# EAGLE library part ADAU1966WBSTZ (library keves-ng)
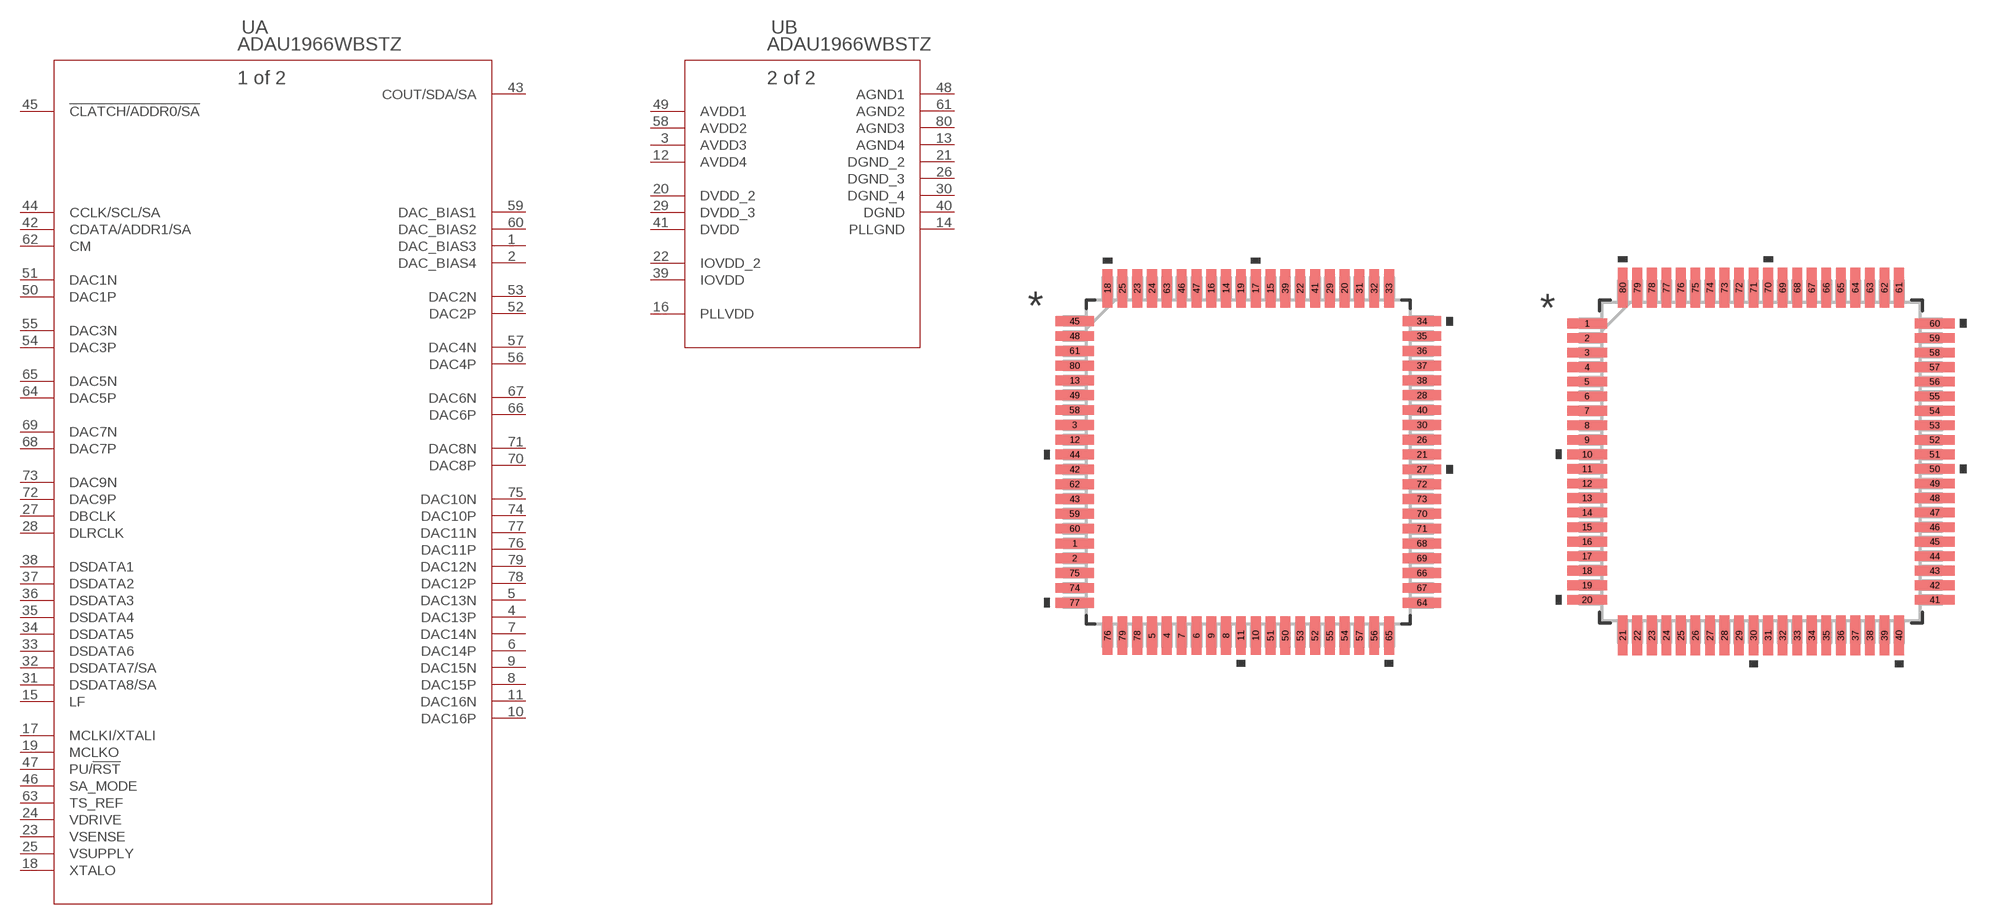
[diagram p5: symbol with the pads of ST_80_2; footprints ST_80_2, ST_80_2-M]

Designator prefix U; gates A=ADAU1966WBSTZ B=ADAU1966WBSTZ_A

## ADAU1966WBSTZ  [ST_80_2]
1  A:DAC_BIAS3  pas
2  A:DAC_BIAS4  pas
3  B:AVDD3  pas
4  A:DAC13P  pas
5  A:DAC13N  pas
6  A:DAC14P  pas
7  A:DAC14N  pas
8  A:DAC15P  pas
9  A:DAC15N  pas
10  A:DAC16P  pas
11  A:DAC16N  pas
12  B:AVDD4  pas
13  B:AGND4  pas
14  B:PLLGND  pas
15  A:LF  pas
16  B:PLLVDD  pas
17  A:MCLKI/XTALI  pas
18  A:XTALO  pas
19  A:MCLKO  pas
20  B:DVDD_2  pas
21  B:DGND_2  pas
22  B:IOVDD_2  pas
23  A:VSENSE  pas
24  A:VDRIVE  pas
25  A:VSUPPLY  pas
26  B:DGND_3  pas
27  A:DBCLK  pas
28  A:DLRCLK  pas
29  B:DVDD_3  pas
30  B:DGND_4  pas
31  A:DSDATA8/SA  pas
32  A:DSDATA7/SA  pas
33  A:DSDATA6  pas
34  A:DSDATA5  pas
35  A:DSDATA4  pas
36  A:DSDATA3  pas
37  A:DSDATA2  pas
38  A:DSDATA1  pas
39  B:IOVDD  pas
40  B:DGND  pas
41  B:DVDD  pas
42  A:CDATA/ADDR1/SA  pas
43  A:COUT/SDA/SA  pas
44  A:CCLK/SCL/SA  pas
45  A:!CLATCH/ADDR0/SA  pas
46  A:SA_MODE  pas
47  A:PU/!RST  pas
48  B:AGND1  pas
49  B:AVDD1  pas
50  A:DAC1P  pas
51  A:DAC1N  pas
52  A:DAC2P  pas
53  A:DAC2N  pas
54  A:DAC3P  pas
55  A:DAC3N  pas
56  A:DAC4P  pas
57  A:DAC4N  pas
58  B:AVDD2  pas
59  A:DAC_BIAS1  pas
60  A:DAC_BIAS2  pas
61  B:AGND2  pas
62  A:CM  pas
63  A:TS_REF  pas
64  A:DAC5P  pas
65  A:DAC5N  pas
66  A:DAC6P  pas
67  A:DAC6N  pas
68  A:DAC7P  pas
69  A:DAC7N  pas
70  A:DAC8P  pas
71  A:DAC8N  pas
72  A:DAC9P  pas
73  A:DAC9N  pas
74  A:DAC10P  pas
75  A:DAC10N  pas
76  A:DAC11P  pas
77  A:DAC11N  pas
78  A:DAC12P  pas
79  A:DAC12N  pas
80  B:AGND3  pas

## ADAU1966WBSTZST_80_2-M  [ST_80_2-M]
Pads as for ST_80_2

## ADAU1966WBSTZST_80_2-L  [ST_80_2-L]
Pads as for ST_80_2

## Footprint ST_80_2 (pad centres in mm)
smd 1.676 x 0.432: 1 -7.62,-3.575; 2 -7.62,-4.225; 3 -7.62,1.625; 12 -7.62,0.975; 13 -7.62,3.575; 21 7.62,0.325; 26 7.62,0.975; 27 7.62,-0.325; 28 7.62,2.925; 30 7.62,1.625; 34 7.62,6.175; 35 7.62,5.525; 36 7.62,4.875; 37 7.62,4.225; 38 7.62,3.575; 40 7.62,2.275; 42 -7.62,-0.325; 43 -7.62,-1.625; 44 -7.62,0.325; 45 -7.62,6.175; 48 -7.62,5.525; 49 -7.62,2.925; 58 -7.62,2.275; 59 -7.62,-2.275; 60 -7.62,-2.925; 61 -7.62,4.875; 62 -7.62,-0.975; 64 7.62,-6.175; 66 7.62,-4.875; 67 7.62,-5.525; 68 7.62,-3.575; 69 7.62,-4.225; 70 7.62,-2.275; 71 7.62,-2.925; 72 7.62,-0.975; 73 7.62,-1.625; 74 -7.62,-5.525; 75 -7.62,-4.875; 77 -7.62,-6.175; 80 -7.62,4.225
smd 0.432 x 1.676: 4 -3.575,-7.62; 5 -4.225,-7.62; 6 -2.275,-7.62; 7 -2.925,-7.62; 8 -0.975,-7.62; 9 -1.625,-7.62; 10 0.325,-7.62; 11 -0.325,-7.62; 14 -0.975,7.62; 15 0.975,7.62; 16 -1.625,7.62; 17 0.325,7.62; 18 -6.175,7.62; 19 -0.325,7.62; 20 4.225,7.62; 22 2.275,7.62; 23 -4.875,7.62; 24 -4.225,7.62; 25 -5.525,7.62; 29 3.575,7.62; 31 4.875,7.62; 32 5.525,7.62; 33 6.175,7.62; 39 1.625,7.62; 41 2.925,7.62; 46 -2.925,7.62; 47 -2.275,7.62; 50 1.625,-7.62; 51 0.975,-7.62; 52 2.925,-7.62; 53 2.275,-7.62; 54 4.225,-7.62; 55 3.575,-7.62; 56 5.525,-7.62; 57 4.875,-7.62; 63 -3.575,7.62; 65 6.175,-7.62; 76 -6.175,-7.62; 78 -4.875,-7.62; 79 -5.525,-7.62

## Footprint ST_80_2-M (pad centres in mm)
smd 1.778 x 0.432: 1 -7.772,6.175; 2 -7.772,5.525; 3 -7.772,4.875; 4 -7.772,4.225; 5 -7.772,3.575; 6 -7.772,2.925; 7 -7.772,2.275; 8 -7.772,1.625; 9 -7.772,0.975; 10 -7.772,0.325; 11 -7.772,-0.325; 12 -7.772,-0.975; 13 -7.772,-1.625; 14 -7.772,-2.275; 15 -7.772,-2.925; 16 -7.772,-3.575; 17 -7.772,-4.225; 18 -7.772,-4.875; 19 -7.772,-5.525; 20 -7.772,-6.175; 41 7.772,-6.175; 42 7.772,-5.525; 43 7.772,-4.875; 44 7.772,-4.225; 45 7.772,-3.575; 46 7.772,-2.925; 47 7.772,-2.275; 48 7.772,-1.625; 49 7.772,-0.975; 50 7.772,-0.325; 51 7.772,0.325; 52 7.772,0.975; 53 7.772,1.625; 54 7.772,2.275; 55 7.772,2.925; 56 7.772,3.575; 57 7.772,4.225; 58 7.772,4.875; 59 7.772,5.525; 60 7.772,6.175
smd 0.432 x 1.778: 21 -6.175,-7.772; 22 -5.525,-7.772; 23 -4.875,-7.772; 24 -4.225,-7.772; 25 -3.575,-7.772; 26 -2.925,-7.772; 27 -2.275,-7.772; 28 -1.625,-7.772; 29 -0.975,-7.772; 30 -0.325,-7.772; 31 0.325,-7.772; 32 0.975,-7.772; 33 1.625,-7.772; 34 2.275,-7.772; 35 2.925,-7.772; 36 3.575,-7.772; 37 4.225,-7.772; 38 4.875,-7.772; 39 5.525,-7.772; 40 6.175,-7.772; 61 6.175,7.772; 62 5.525,7.772; 63 4.875,7.772; 64 4.225,7.772; 65 3.575,7.772; 66 2.925,7.772; 67 2.275,7.772; 68 1.625,7.772; 69 0.975,7.772; 70 0.325,7.772; 71 -0.325,7.772; 72 -0.975,7.772; 73 -1.625,7.772; 74 -2.275,7.772; 75 -2.925,7.772; 76 -3.575,7.772; 77 -4.225,7.772; 78 -4.875,7.772; 79 -5.525,7.772; 80 -6.175,7.772

## Footprint ST_80_2-L (pad centres in mm)
smd 1.168 x 0.381: 1 -7.671,6.175; 2 -7.671,5.525; 3 -7.671,4.875; 4 -7.671,4.225; 5 -7.671,3.575; 6 -7.671,2.925; 7 -7.671,2.275; 8 -7.671,1.625; 9 -7.671,0.975; 10 -7.671,0.325; 11 -7.671,-0.325; 12 -7.671,-0.975; 13 -7.671,-1.625; 14 -7.671,-2.275; 15 -7.671,-2.925; 16 -7.671,-3.575; 17 -7.671,-4.225; 18 -7.671,-4.875; 19 -7.671,-5.525; 20 -7.671,-6.175; 41 7.671,-6.175; 42 7.671,-5.525; 43 7.671,-4.875; 44 7.671,-4.225; 45 7.671,-3.575; 46 7.671,-2.925; 47 7.671,-2.275; 48 7.671,-1.625; 49 7.671,-0.975; 50 7.671,-0.325; 51 7.671,0.325; 52 7.671,0.975; 53 7.671,1.625; 54 7.671,2.275; 55 7.671,2.925; 56 7.671,3.575; 57 7.671,4.225; 58 7.671,4.875; 59 7.671,5.525; 60 7.671,6.175
smd 0.381 x 1.168: 21 -6.175,-7.671; 22 -5.525,-7.671; 23 -4.875,-7.671; 24 -4.225,-7.671; 25 -3.575,-7.671; 26 -2.925,-7.671; 27 -2.275,-7.671; 28 -1.625,-7.671; 29 -0.975,-7.671; 30 -0.325,-7.671; 31 0.325,-7.671; 32 0.975,-7.671; 33 1.625,-7.671; 34 2.275,-7.671; 35 2.925,-7.671; 36 3.575,-7.671; 37 4.225,-7.671; 38 4.875,-7.671; 39 5.525,-7.671; 40 6.175,-7.671; 61 6.175,7.671; 62 5.525,7.671; 63 4.875,7.671; 64 4.225,7.671; 65 3.575,7.671; 66 2.925,7.671; 67 2.275,7.671; 68 1.625,7.671; 69 0.975,7.671; 70 0.325,7.671; 71 -0.325,7.671; 72 -0.975,7.671; 73 -1.625,7.671; 74 -2.275,7.671; 75 -2.925,7.671; 76 -3.575,7.671; 77 -4.225,7.671; 78 -4.875,7.671; 79 -5.525,7.671; 80 -6.175,7.671